# EAGLE library part SMD-BLUE-MALE-HEADER-R/A(40P-2.54) (library Seeed-OPL-Connector)
320020048
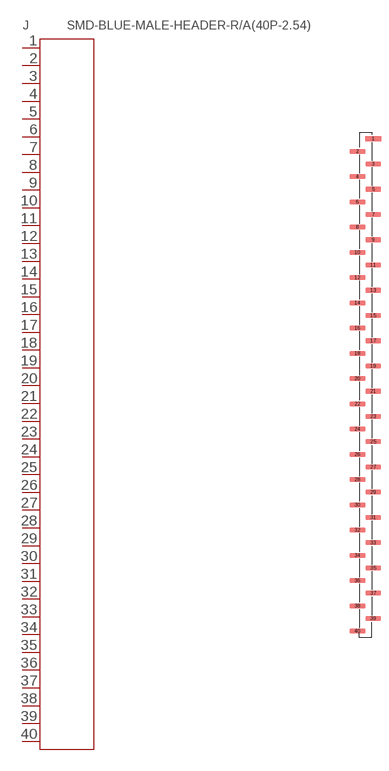
[diagram p107: symbol with the pads of H40-SMD-2.54; footprint H40-SMD-2.54]

Designator prefix J

## SMD-BLUE-MALE-HEADER-R/A(40P-2.54) (MPN: P125-1140A0BMB116D2; VALUE: 40p-2.54)  [H40-SMD-2.54]
1  P$1
2  P$2
3  P$3
4  P$4
5  P$5
6  P$6
7  P$7
8  P$8
9  P$9
10  P$10
11  P$11
12  P$12
13  P$13
14  P$14
15  P$15
16  P$16
17  P$17
18  P$18
19  P$19
20  P$20
21  P$21
22  P$22
23  P$23
24  P$24
25  P$25
26  P$26
27  P$27
28  P$28
29  P$29
30  P$30
31  P$31
32  P$32
33  P$33
34  P$34
35  P$35
36  P$36
37  P$37
38  P$38
39  P$39
40  P$40

## Footprint H40-SMD-2.54 (pad centres in mm)
smd 3.17 x 1.02: 1 1.585,49.53; 2 -1.585,46.99; 3 1.585,44.45; 4 -1.585,41.91; 5 1.585,39.37; 6 -1.585,36.83; 7 1.585,34.29; 8 -1.585,31.75; 9 1.585,29.21; 10 -1.585,26.67; 11 1.585,24.13; 12 -1.585,21.59; 13 1.585,19.05; 14 -1.585,16.51; 15 1.585,13.97; 16 -1.585,11.43; 17 1.585,8.89; 18 -1.585,6.35; 19 1.585,3.81; 20 -1.585,1.27; 21 1.585,-1.27; 22 -1.585,-3.81; 23 1.585,-6.35; 24 -1.585,-8.89; 25 1.585,-11.43; 26 -1.585,-13.97; 27 1.585,-16.51; 28 -1.585,-19.05; 29 1.585,-21.59; 30 -1.585,-24.13; 31 1.585,-26.67; 32 -1.585,-29.21; 33 1.585,-31.75; 34 -1.585,-34.29; 35 1.585,-36.83; 36 -1.585,-39.37; 37 1.585,-41.91; 38 -1.585,-44.45; 39 1.585,-46.99; 40 -1.585,-49.53